# Altium schematic symbol library AM335x_Thermal_Printer.SchLib: 7 symbols
Pins are listed as number, name and electrical type; pins without a type are passive.

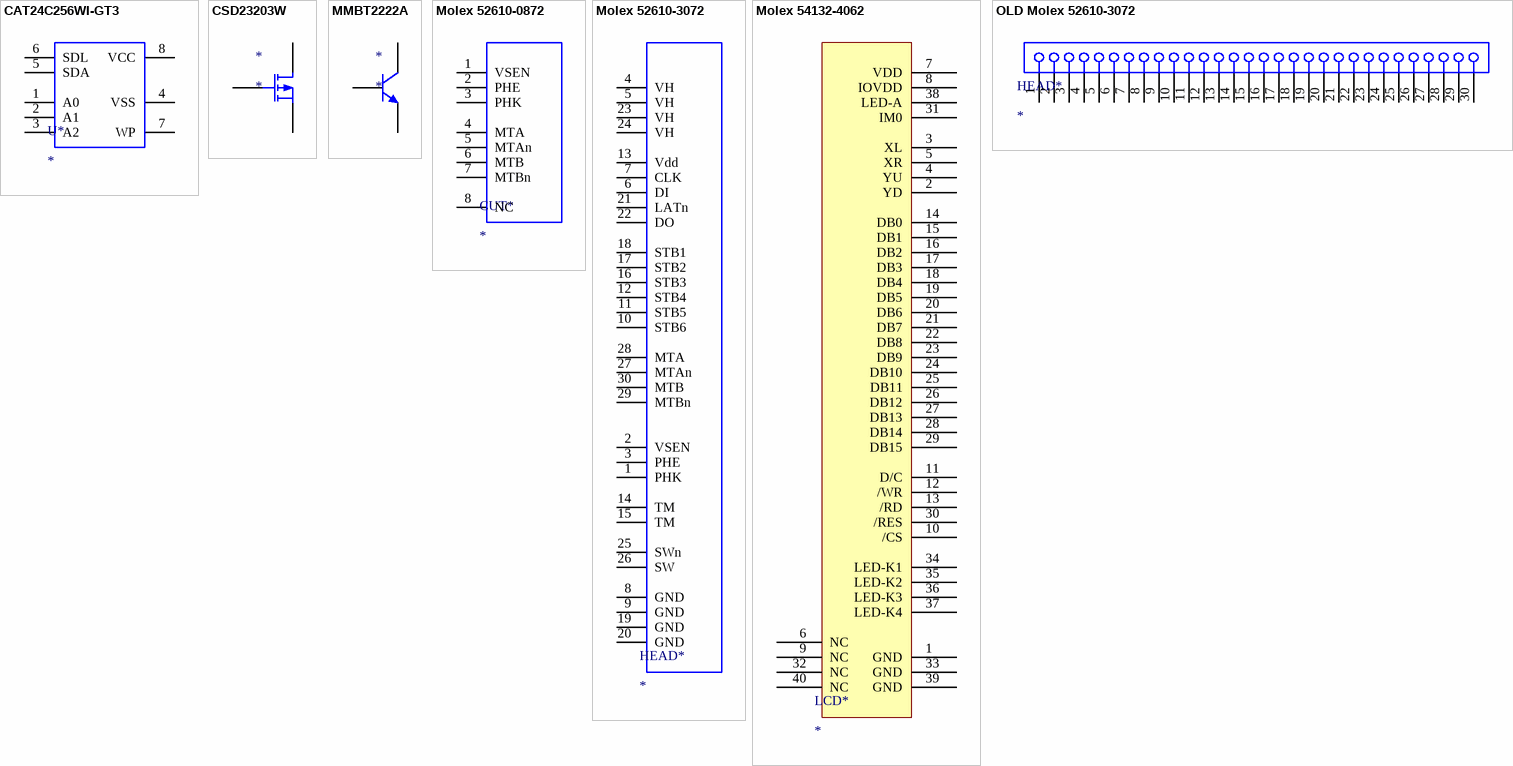
[diagram p0: symbols CAT24C256WI-GT3 to OLD Molex 52610-3072]

## CAT24C256WI-GT3
designator U*
IC EEPROM 256KBIT 400KHZ 8SOIC
footprint CAT24C256WI-GT3 (IC EEPROM 256KBIT 400KHZ 8SOIC)
pins: 1 A0, 2 A1, 3 A2, 4 VSS, 5 SDA, 6 SDL, 7 WP, 8 VCC

## CSD23203W
designator *
8 V P-Channel NexFET Power MOSFET
footprint CSD23203W
pins: A1 G, A2, B1, B2 S, C1, C2 D

## MMBT2222A
designator *
40V NPN SMALL SIGNAL TRANSISTOR IN SOT23
footprint MMBT2222A (40V NPN SMALL SIGNAL TRANSISTOR IN SOT23)
pins: 1 B, 2 E, 3 C

## Molex 52610-0872
designator CUT*
FPC connector for Fujitsu FTP-628MCL401 (Molex 52610-0871 is obsolete)
footprint Molex 52610-0872 (FPC connector for Fujitsu FTP-628MCL401 (Molex 52610-0871 is obsolete))
pins: 1 VSEN, 2 PHE, 3 PHK, 4 MTA, 5 MTAn, 6 MTB, 7 MTBn, 8 NC

## Molex 52610-3072
designator HEAD*
FPC connector for Fujitsu FTP-628MCL401 print head (Molex 52610-3071 is obsolete)
footprint Molex 52610-3072 (FPC connector for Fujitsu FTP-628MCL401 print head (Molex 52610-3071 is obsolete))
pins: 1 PHK, 2 VSEN, 3 PHE, 4 VH, 5 VH, 6 DI, 7 CLK, 8 GND, 9 GND, 10 STB6, 11 STB5, 12 STB4, 13 Vdd, 14 TM, 15 TM, 16 STB3, 17 STB2, 18 STB1, 19 GND, 20 GND, 21 LATn, 22 DO, 23 VH, 24 VH, 25 SWn, 26 SW, 27 MTAn, 28 MTA, 29 MTBn, 30 MTB

## Molex 54132-4062
designator LCD*
FPC connector for NHD-2.4" LCD (specifically NHD-2.4-240320SF-CTXL#-FTN1)
footprint Molex 54132-4062 (FPC connector for NHD-2.4" LCD (specifically NHD-2.4-240320SF-CTXL#-FTN1))
pins: 1 GND, 2 YD, 3 XL, 4 YU, 5 XR, 6 NC, 7 VDD, 8 IOVDD, 9 NC, 10 /CS, 11 D/C, 12 /WR, 13 /RD, 14 DB0, 15 DB1, 16 DB2, 17 DB3, 18 DB4, 19 DB5, 20 DB6, 21 DB7, 22 DB8, 23 DB9, 24 DB10, 25 DB11, 26 DB12, 27 DB13, 28 DB14, 29 DB15, 30 /RES, 31 IM0, 32 NC, 33 GND, 34 LED-K1, 35 LED-K2, 36 LED-K3, 37 LED-K4, 38 LED-A, 39 GND, 40 NC

## OLD Molex 52610-3072
designator HEAD*
FPC connector for Fujitsu FTP-628MCL401 print head (Molex 52610-3071 is obsolete)
footprint Molex 52610-3072 (FPC connector for Fujitsu FTP-628MCL401 print head (Molex 52610-3071 is obsolete))
pins: 1, 2, 3, 4, 5, 6, 7, 8, 9, 10, 11, 12, 13, 14, 15, 16, 17, 18, 19, 20, 21, 22, 23, 24, 25, 26, 27, 28, 29, 30